# EAGLE library part TLC6C598 (library Public)
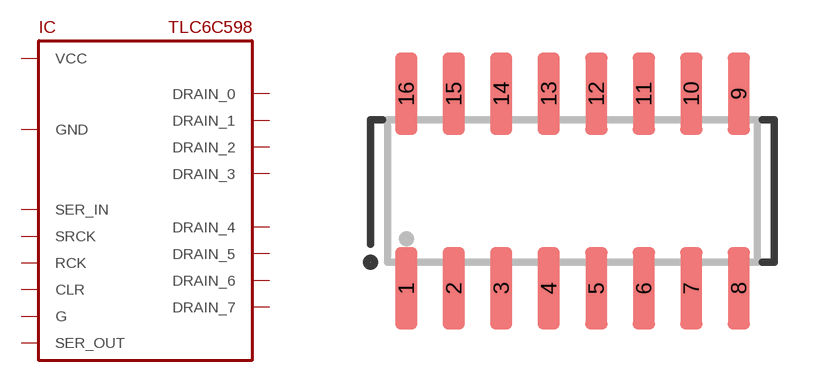
[diagram p129: symbol with the pads of SO16; footprint SO16]

Designator prefix IC

## TLC6C598  [SO16]
1  VCC
2  SER_IN
3  DRAIN_0
4  DRAIN_1
5  DRAIN_2
6  DRAIN_3
7  CLR
8  G
9  SER_OUT
10  RCK
11  DRAIN_4
12  DRAIN_5
13  DRAIN_6
14  DRAIN_7
15  SRCK
16  GND

## Footprint SO16 (pad centres in mm)
smd 0.6 x 2.2: 1 -4.445,-2.6; 2 -3.175,-2.6; 3 -1.905,-2.6; 4 -0.635,-2.6; 5 0.635,-2.6; 6 1.905,-2.6; 7 3.175,-2.6; 8 4.445,-2.6; 9 4.445,2.6; 10 3.175,2.6; 11 1.905,2.6; 12 0.635,2.6; 13 -0.635,2.6; 14 -1.905,2.6; 15 -3.175,2.6; 16 -4.445,2.6